# Altium integrated library ZQS_Library.IntLib: 14 symbols
Pins are listed as number, name and electrical type; pins without a type are passive.

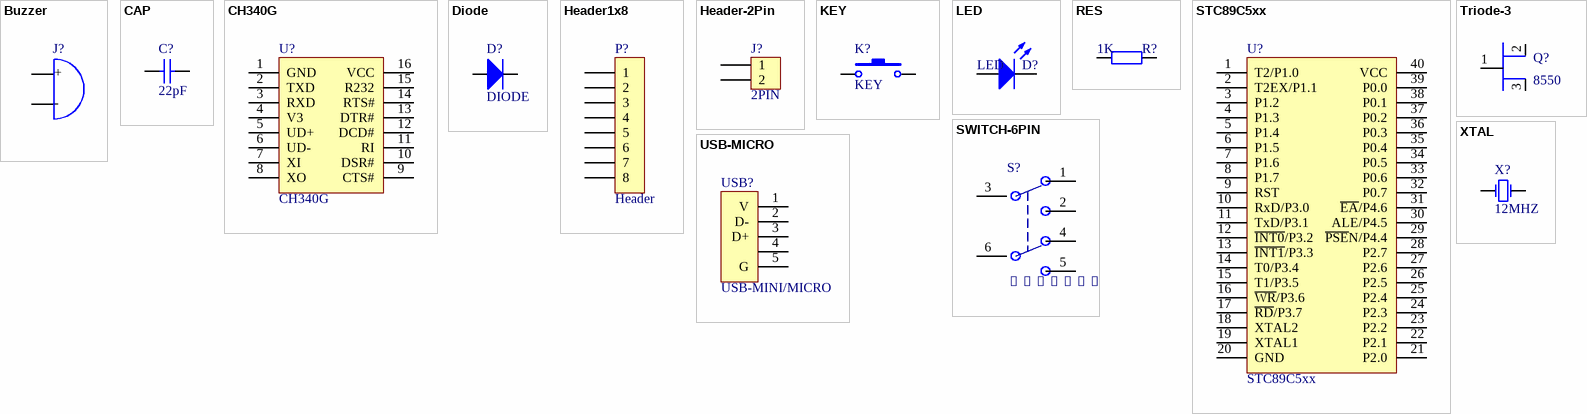
[diagram p0: symbols Buzzer to XTAL]

## Buzzer
designator J?
footprint Buzzer
pins: 1 A, 2 B
text: +; -

## CAP
designator C?, comment 22pF
footprint C0603
pins: 1, 2

## CH340G
designator U?
footprint SOIC-16_150mil
pins: 1 GND, 2 TXD, 3 RXD, 4 V3, 5 UD+, 6 UD-, 7 XI, 8 XO, 9 CTS#, 10 DSR#, 11 RI, 12 DCD#, 13 DTR#, 14 RTS#, 15 R232, 16 VCC

## Diode
designator D?, comment DIODE
footprint DO-214AC
pins: 1 A, 2 K

## Header1x8
designator P?, comment Header
footprint HDR2.54-M-LI-8P
pins: 1, 2, 3, 4, 5, 6, 7, 8

## Header-2Pin
designator J?, comment 2PIN
footprint HDR2.54-LI-2P
pins: 1, 2

## KEY
designator K?
footprint KEY
pins: 1, 2

## LED
designator D?
footprint LED-B
footprint LED-G
footprint LED-R
footprint LED-Y
pins: 1 A, 2 K

## RES
designator R?, comment 1K
footprint R0603
pins: 1, 2

## STC89C5xx
designator U?
footprint STC89C5X
pins: 1 T2/P1.0, 2 T2EX/P1.1, 3 P1.2, 4 P1.3, 5 P1.4, 6 P1.5, 7 P1.6, 8 P1.7, 9 RST, 10 RxD/P3.0, 11 TxD/P3.1, 12 ~{INT0}/P3.2, 13 ~{INT1}/P3.3, 14 T0/P3.4, 15 T1/P3.5, 16 ~{WR}/P3.6, 17 ~{RD}/P3.7, 18 XTAL2, 19 XTAL1, 20 GND, 21 P2.0, 22 P2.1, 23 P2.2, 24 P2.3, 25 P2.4, 26 P2.5, 27 P2.6, 28 P2.7, 29 ~{PSE}N/P4.4, 30 ALE/P4.5, 31 ~{EA}/P4.6, 32 P0.7, 33 P0.6, 34 P0.5, 35 P0.4, 36 P0.3, 37 P0.2, 38 P0.1, 39 P0.0, 40 VCC

## SWITCH-6PIN
designator S?, comment ��������
footprint swtich-6pin
pins: 1, 2, 3, 4, 5, 6

## Triode-3
designator Q?, comment 8550
footprint SOT-23-3
pins: 1, 2, 3

## USB-MICRO
designator USB?, comment USB-MINI/MICRO
footprint USB-MICRO2
pins: 1 V, 2 D-, 3 D+, 4, 5 G

## XTAL
designator X?, comment 12MHZ
footprint XTAL_HC49SMD
pins: 1 OSC1, 2 OSC2